# EAGLE library part L298N (library IC)
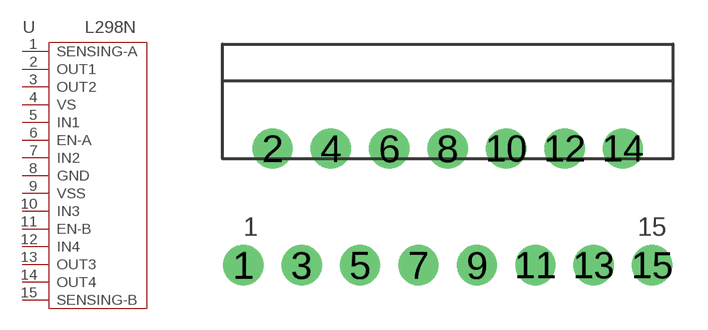
[diagram p163: symbol with the pads of MULTIWATT15; footprint MULTIWATT15]

Designator prefix U

## L298N-  [MULTIWATT15]
1  SENSING-A
2  OUT1  out
3  OUT2  out
4  VS  sup
5  IN1  in
6  EN-A  in
7  IN2  in
8  GND  sup
9  VSS  sup
10  IN3  in
11  EN-B  in
12  IN4  in
13  OUT3  out
14  OUT4  out
15  SENSING-B

## Footprint MULTIWATT15 (pad centres in mm)
drill 1.05 pad 1.75 round: 1 -8.89,0; 2 -7.62,5.08; 3 -6.35,0; 4 -5.08,5.08; 5 -3.81,0; 6 -2.54,5.08; 7 -1.27,0; 8 0,5.08; 9 1.27,0; 10 2.54,5.08; 11 3.81,0; 12 5.08,5.08; 13 6.35,0; 14 7.62,5.08; 15 8.89,0